# Altium schematic symbol library SCH - POWER - SWITCHMODE - TI TPS54335ADRC.SchLib: 1 symbol
Pins are listed as number, name and electrical type; pins without a type are passive.

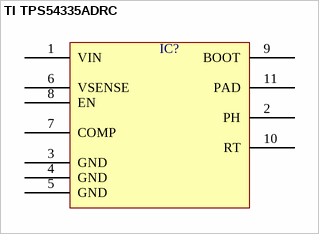
[diagram p0: symbol TI TPS54335ADRC]

## TI TPS54335ADRC
designator IC?  (value not drawn)
pins: 1 VIN, 2 PH, 3 GND, 4 GND, 5 GND, 6 VSENSE, 7 COMP, 8 EN, 9 BOOT, 10 RT, 11 PAD